# EAGLE library part 47346-0001 (library molex_usb)
CONN RCPT 5POS MICRO USB R/A SMD
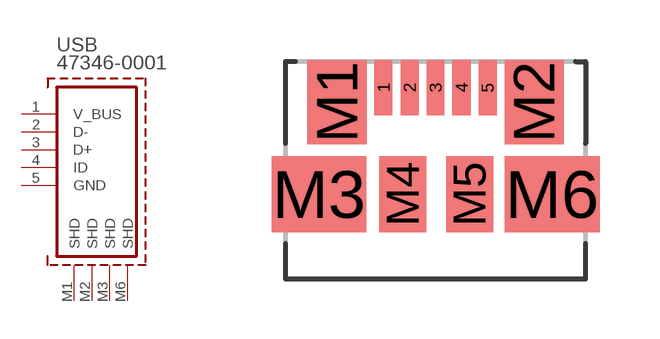
[diagram p0: symbol with the pads of MOLEX_47346-0001; footprint MOLEX_47346-0001]

Designator prefix USB

## 47346-0001 (MPN: 47346-0001; OC_FARNELL: 1568026; OC_NEWARK: 47M0505; PACKAGE: 5 POS MICRO USB R/A; SUPPLIER: MOLEX)  [MOLEX_47346-0001]
1  V_BUS  in
2  D-  in
3  D+  in
4  ID  in
5  GND  in
M1  SHD  in
M2  SHD  in
M3  SHD  in
M6  SHD  in

## Footprint MOLEX_47346-0001 (pad centres in mm)
MICRO USB R/A-473460001
smd 0.45 x 1.38: 1 -1.3,0; 2 -0.65,0; 3 0,0; 4 0.65,0; 5 1.3,0
smd 1.475 x 2.1: M1 -2.462,-0.36; M2 2.462,-0.36
smd 2.375 x 1.9: M3 -2.913,-2.66; M6 2.913,-2.66
smd 1.175 x 1.9: M4 -0.82,-2.66; M5 0.85,-2.66